# EAGLE library part 750311856 (library Midcom Inc - EAGLE Lib V2-0)
Package Style: EP13 Mounting: SMD Pins: 12 pins Bobbin: 070-4482 Best pinouts for production vary per application. Please contact Wurth Electronics Midcom, Inc. for assistance with your custom design. Website: Wurth Electronics Midcom <http://www.we-online.com/midcom> Contact us Wurth Electronics Midcom, Inc. 121 Airport Dr. Watertown, SD 57201 Phone: (605) 886-4385 Fax: (605) 886-4486 E-Mail: midcom@we-online.com
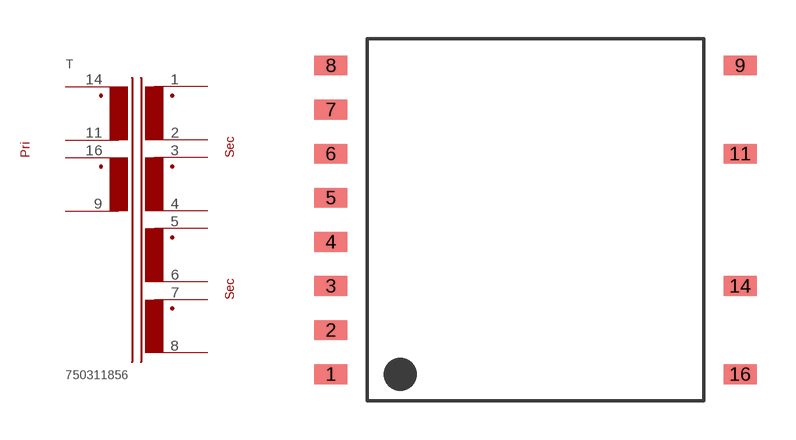
[diagram p360: symbol with the pads of EP13_SMD_H_12PIN_(4482); footprint EP13_SMD_H_12PIN_(4482)]

Designator prefix T

## 750311856  [EP13_SMD_H_12PIN_(4482)]
1  1  pas
2  2  pas
3  3  pas
4  4  pas
5  5  pas
6  6  pas
7  7  pas
8  8  pas
9  9  pas
11  11  pas
14  14  pas
16  16  pas

## Footprint EP13_SMD_H_12PIN_(4482) (pad centres in mm)
Package Style: EP13 Mounting: SMD Pins: 16 Bobbin: 070-4482
smd 1.27 x 0.762: 1 -7.887,-5.956; 2 -7.887,-4.255; 3 -7.887,-2.553; 4 -7.887,-0.851; 5 -7.887,0.851; 6 -7.887,2.553; 7 -7.887,4.255; 8 -7.887,5.956; 9 7.887,5.956; 11 7.887,2.553; 14 7.887,-2.553; 16 7.887,-5.956